# Altium schematic symbol library falcon_mcu.SchLib: 10 symbols
Pins are listed as number, name and electrical type; pins without a type are passive.

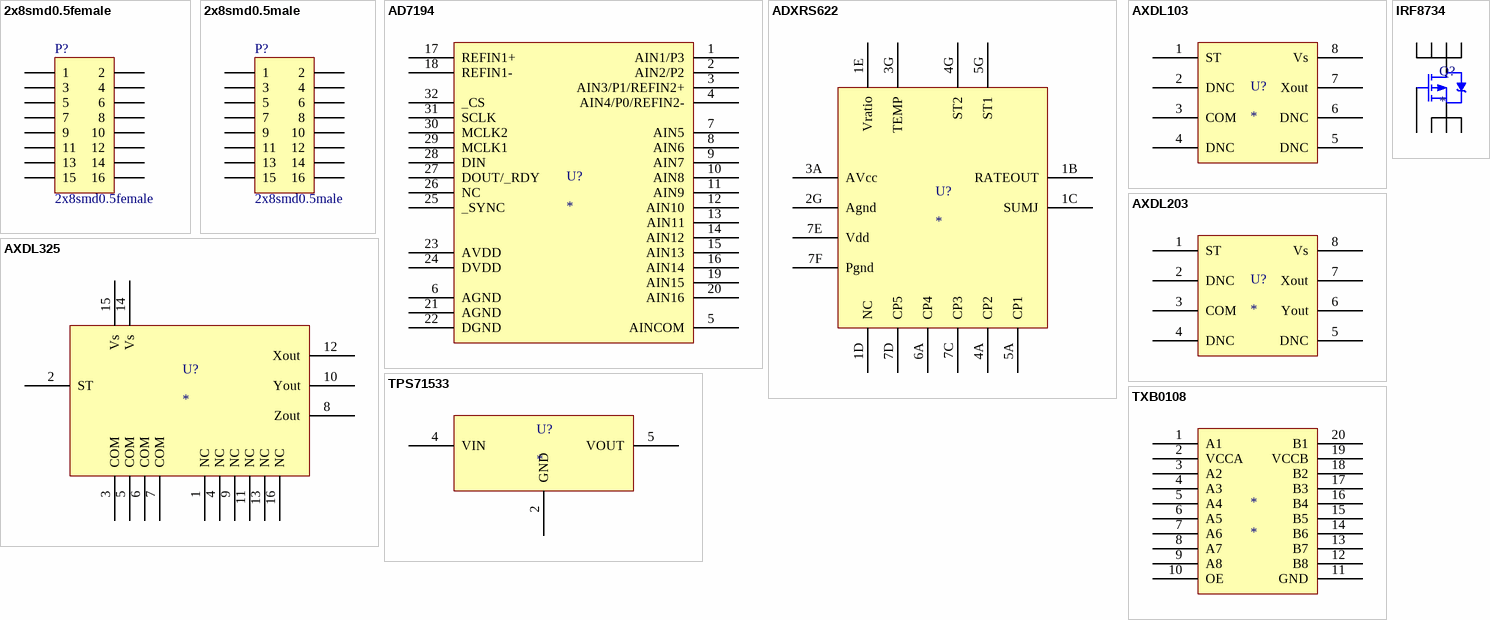
[diagram p0: symbols 2x8smd0.5female to TXB0108]

## 2x8smd0.5female
designator P?
Part No.: S9007E-08-ND; Vendor: Digikey; Price Est.: 1.43
signal-integrity model Connector
footprint S9007E-08-ND (16 0.05" smd header - female)
pins: 1, 2, 3, 4, 5, 6, 7, 8, 9, 10, 11, 12, 13, 14, 15, 16

## 2x8smd0.5male
designator P?
Part No.: S9013E-08-ND; Vendor: Digikey; Price Est.: 1.43
signal-integrity model Connector
footprint S9007E-08-ND (16 0.05" smd header - female)
pins: 1, 2, 3, 4, 5, 6, 7, 8, 9, 10, 11, 12, 13, 14, 15, 16

## AD7194
designator U?
Part No.: AD7194BCPZ-ND; Vendor: Digikey; Price Est.: 11.88
footprint LFCSP_WQ_AD7194 (From AD7194 Datasheet)
pins: 1 AIN1/P3, 2 AIN2/P2, 3 AIN3/P1/REFIN2+, 4 AIN4/P0/REFIN2-, 5 AINCOM, 6 AGND, 7 AIN5, 8 AIN6, 9 AIN7, 10 AIN8, 11 AIN9, 12 AIN10, 13 AIN11, 14 AIN12, 15 AIN13, 16 AIN14, 17 REFIN1+, 18 REFIN1-, 19 AIN15, 20 AIN16, 21 AGND, 22 DGND, 23 AVDD, 24 DVDD, 25 _SYNC, 26 NC, 27 DOUT/_RDY, 28 DIN, 29 MCLK1, 30 MCLK2, 31 SCLK, 32 _CS

## ADXRS622
designator U?
Part No.: ADXRS622WBBGZA-ND; Vendor: Digikey; Price Est.: 31.47
footprint BGA_AXDR (From AXDRS622 Datasheet)
pins: 1B RATEOUT, 1C SUMJ, 1D NC, 1E Vratio, 2G Agnd, 3A AVcc, 3G TEMP, 4A CP2, 4G ST2, 5A CP1, 5G ST1, 6A CP4, 7C CP3, 7D CP5, 7E Vdd, 7F Pgnd

## AXDL103
designator U?
Part No.: AXDL103
footprint CLCC (from ADXL103)
pins: 1 ST, 2 DNC, 3 COM, 4 DNC, 5 DNC, 6 DNC, 7 Xout, 8 Vs

## AXDL203
designator U?
footprint CLCC (from ADXL103)
pins: 1 ST, 2 DNC, 3 COM, 4 DNC, 5 DNC, 6 Yout, 7 Xout, 8 Vs

## AXDL325
designator U?
Part No.: ADXL325BCPZ-RL7CT-ND; Vendor: Digikey; Price Est.: 4.82
footprint LFCSP_LQ_AXDL
pins: 1 NC, 2 ST, 3 COM, 4 NC, 5 COM, 6 COM, 7 COM, 8 Zout, 9 NC, 10 Yout, 11 NC, 12 Xout, 13 NC, 14 Vs, 15 Vs, 16 NC

## IRF8734
designator Q?
Part No.: IRF8734TRPBFCT-ND; Vendor: Digikey; Price Est.: 1.04
footprint SO8 (M8.15 (JEDEC MS-012-AA ISSUE C)  8 LEAD NARROW BODY SMALL OUTLINE PLASTIC  PACKAGE)
pins: 1 S, 2 S, 3 S, 4 G, 5 D, 6 D, 7 D, 8 D

## TPS71533
designator U?
Part No.: 296-12008-1-ND; Vendor: Digikey; Price Est.: 1.29
footprint SOT23-5 (SOT23, 5-Leads, Body 3.0x3.0mm (max), Pitch 0.95mm)
pins: 2 GND, 4 VIN, 5 VOUT

## TXB0108
designator *
Part No.: 296-21527-1-ND; Vendor: Digikey; Price Est.: 2.80
footprint TSSOP-20
pins: 1 A1, 2 VCCA (power), 3 A2, 4 A3, 5 A4, 6 A5, 7 A6, 8 A7, 9 A8, 10 OE, 11 GND (power), 12 B8, 13 B7, 14 B6, 15 B5, 16 B4, 17 B3, 18 B2, 19 VCCB (power), 20 B1